# Altium schematic symbol library Switchcraft_112B.SchLib: 1 symbol
Pins are listed as number, name and electrical type; pins without a type are passive.

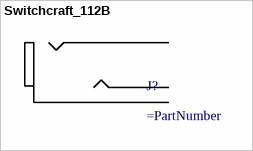
[diagram p0: symbol Switchcraft_112B]

## Switchcraft_112B
designator J?
pins: R, SLV, T